# EAGLE library part _UC_ATMEGA3208-TQFP-32 (library SamacSys_Parts)
8-bit Microcontrollers - MCU 20MHz, 32KB, TQFP32, Ind 125C, Green, T&R Source: Datasheet
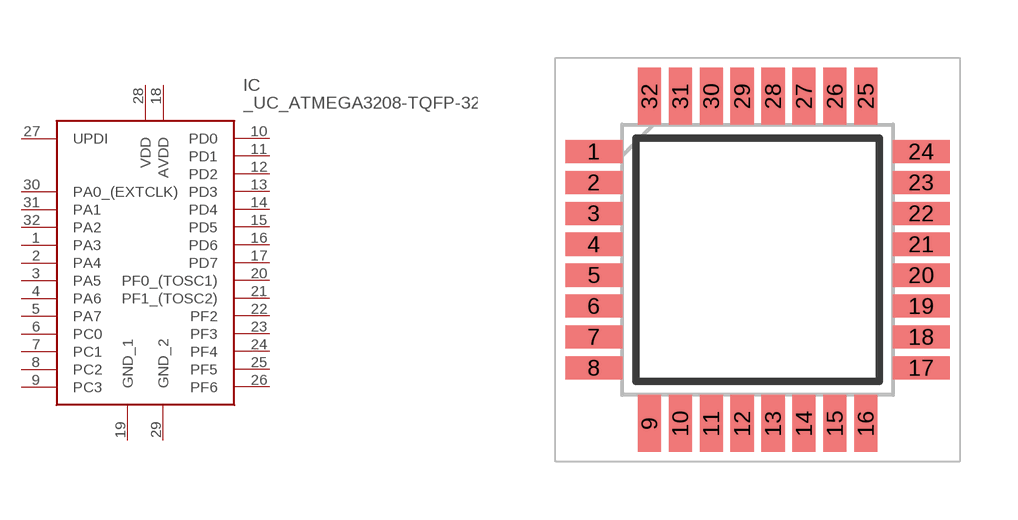
[diagram p7: symbol with the pads of QFP80P900X900X120-32N; footprint QFP80P900X900X120-32N]

Designator prefix IC

## _UC_ATMEGA3208-TQFP-32 (DESCRIPTION: 8-bit Microcontrollers - MCU 20MHz, 32KB, TQFP32, Ind 125C, Green, T&R; HEIGHT: 1.2mm; MANUFACTURER_NAME: Microchip; MANUFACTURER_PART_NUMBER: ATMEGA3208-AFR; MOUSER_PART_NUMBER: 579-ATMEGA3208AFR; MOUSER_PRICE-STOCK: https://www.mouser.co.uk/ProductDetail/Microchip-Technology-Atmel/ATMEGA3208-AFR?qs=y6ZabgHbY%252ByqMua8ssBYRQ%3D%3D)  [QFP80P900X900X120-32N]
1  PA3
2  PA4
3  PA5
4  PA6
5  PA7
6  PC0
7  PC1
8  PC2
9  PC3
10  PD0
11  PD1
12  PD2
13  PD3
14  PD4
15  PD5
16  PD6
17  PD7
18  AVDD
19  GND_1
20  PF0_(TOSC1)
21  PF1_(TOSC2)
22  PF2
23  PF3
24  PF4
25  PF5
26  PF6
27  UPDI
28  VDD
29  GND_2
30  PA0_(EXTCLK)
31  PA1
32  PA2

## Footprint QFP80P900X900X120-32N (pad centres in mm)
TQFPA-1
smd 1.475 x 0.6: 1 -4.238,2.8; 2 -4.238,2; 3 -4.238,1.2; 4 -4.238,0.4; 5 -4.238,-0.4; 6 -4.238,-1.2; 7 -4.238,-2; 8 -4.238,-2.8; 17 4.238,-2.8; 18 4.238,-2; 19 4.238,-1.2; 20 4.238,-0.4; 21 4.238,0.4; 22 4.238,1.2; 23 4.238,2; 24 4.238,2.8
smd 0.6 x 1.475: 9 -2.8,-4.238; 10 -2,-4.238; 11 -1.2,-4.238; 12 -0.4,-4.238; 13 0.4,-4.238; 14 1.2,-4.238; 15 2,-4.238; 16 2.8,-4.238; 25 2.8,4.238; 26 2,4.238; 27 1.2,4.238; 28 0.4,4.238; 29 -0.4,4.238; 30 -1.2,4.238; 31 -2,4.238; 32 -2.8,4.238